# Altium schematic symbol library JFD_Res.SchLib: 28 symbols
Pins are listed as number, name and electrical type; pins without a type are passive.

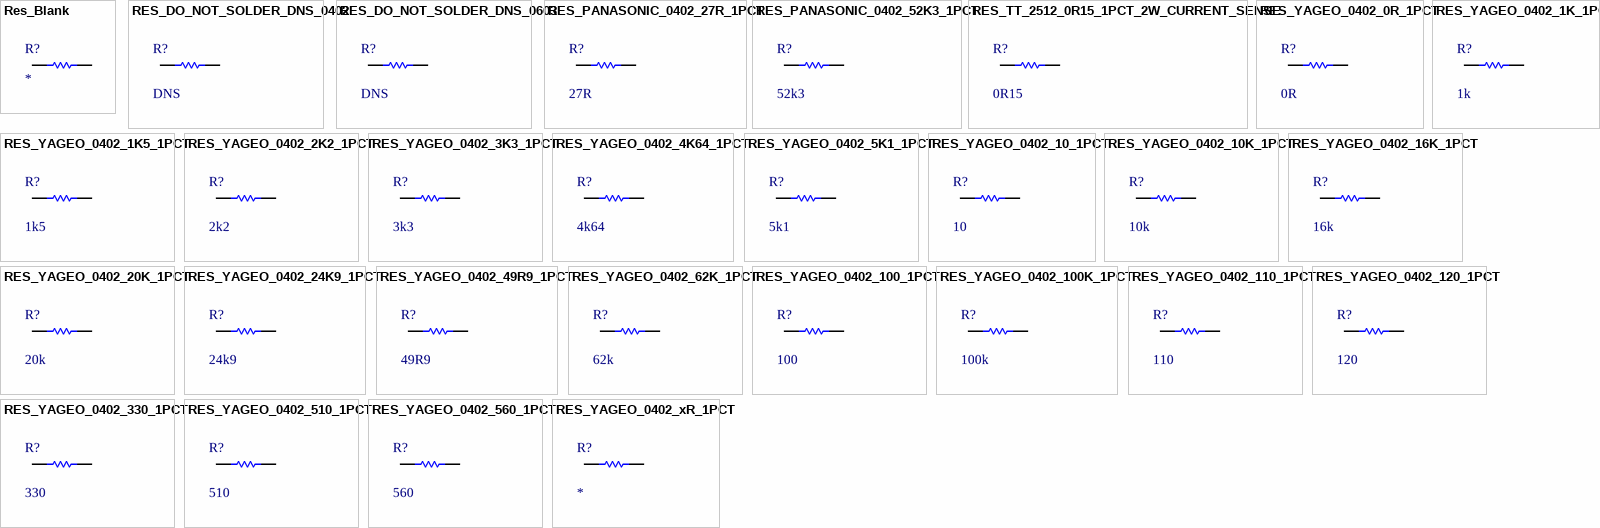
[diagram p0: symbols Res_Blank to RES_YAGEO_0402_xR_1PCT]

## Res_Blank
designator R?
Mfg: *; MfgPartNumber: *; Value: *; Digikey: *
pins: 1, 2

## RES_DO_NOT_SOLDER_DNS_0402
designator R?, comment DNS
Optional jumper - Do Not Solder; Mfg: NULL; MfgPartNumber: NULL; Digikey: NULL; Value: DNS
footprint 0402
pins: 1, 2

## RES_DO_NOT_SOLDER_DNS_0603
designator R?, comment DNS
Optional jumper - Do Not Solder; Mfg: NULL; MfgPartNumber: NULL; Digikey: NULL; Value: DNS
footprint 0603
pins: 1, 2

## RES_PANASONIC_0402_27R_1PCT
designator R?, comment 27R
RES 27.0 OHM 1/10W 1% 0402 SMD; MfgPartNumber: ERJ-2RKF27R0X; Mfg: Panasonic; Digikey: P27.0LCT-ND; Value: 27R
footprint 0402
pins: 1, 2

## RES_PANASONIC_0402_52K3_1PCT
designator R?, comment 52k3
RES 52.3K OHM 1/10W 1% 0402 SMD; MfgPartNumber: ERJ-2RKF5232X; Mfg: Panasonic - ECG; Digikey: P52.3KLCT-ND; Value: 52k3
footprint 0402
pins: 1, 2

## RES_TT_2512_0R15_1PCT_2W_CURRENT_SENSE
designator R?, comment 0R15
RES .150 OHM 2W 1% 2512 SMD; MfgPartNumber: LRC-LR2512LF-01-R150-F; Mfg: TT Electronics/IRC; Digikey: 989-1064-1-ND; Value: 0R15
footprint 2512
pins: 1, 2

## RES_YAGEO_0402_0R_1PCT
designator R?, comment 0R
RES 0.0 OHM 1/16W 0402 SMD; MfgPartNumber: RC0402JR-070RL; Mfg: Yageo; Digikey: 311-0.0JRCT-ND; Value: 0R
footprint 0402
pins: 1, 2

## RES_YAGEO_0402_1K5_1PCT
designator R?, comment 1k5
RES 1.50K OHM 1/16W 1% 0402 SMD; MfgPartNumber: RC0402FR-071K5L; Mfg: Yageo; Digikey: 311-1.50KLRCT-ND; Value: 1k5
footprint 0402
pins: 1, 2

## RES_YAGEO_0402_1K_1PCT
designator R?, comment 1k
RES 1.00K OHM 1/16W 1% 0402 SMD; MfgPartNumber: RC0402FR-071KL; Mfg: Yageo; Digikey: 311-1.00KLRCT-ND; Value: 1k
footprint 0402
pins: 1, 2

## RES_YAGEO_0402_2K2_1PCT
designator R?, comment 2k2
RES 2.20K OHM 1/16W 1% 0402 SMD; MfgPartNumber: RC0402FR-072K2L; Mfg: Yageo; Digikey: 311-2.20KLRCT-ND; Value: 2k2
footprint 0402
pins: 1, 2

## RES_YAGEO_0402_3K3_1PCT
designator R?, comment 3k3
RES 3.30K OHM 1/16W 1% 0402 SMD; MfgPartNumber: RC0402FR-073K3L; Mfg: Yageo; Digikey: 311-3.30KLRCT-ND; Value: 3k3
footprint 0402
pins: 1, 2

## RES_YAGEO_0402_4K64_1PCT
designator R?, comment 4k64
RES 4.64K OHM 1/16W 1% 0402 SMD; MfgPartNumber: RC0402FR-074K64L; Mfg: Yageo; Digikey: 311-4.64KLRCT-ND; Value: 4k64
footprint 0402
pins: 1, 2

## RES_YAGEO_0402_5K1_1PCT
designator R?, comment 5k1
RES 5.10K OHM 1/16W 1% 0402 SMD; MfgPartNumber: RC0402FR-075K1L; Mfg: Yageo; Digikey: 311-5.10KLRCT-ND; Value: 5k1
footprint 0402
pins: 1, 2

## RES_YAGEO_0402_10_1PCT
designator R?, comment 10
RES 10.0 OHM 1/16W 1% 0402 SMD; MfgPartNumber: RC0402FR-0710RL; Mfg: Yageo; Digikey: 311-10.0LRCT-ND; Value: 10
footprint 0402
pins: 1, 2

## RES_YAGEO_0402_10K_1PCT
designator R?, comment 10k
RES 10.0K OHM 1/16W 1% 0402 SMD; MfgPartNumber: RC0402FR-0710KL; Mfg: Yageo; Digikey: 311-10.0KLRCT-ND; Value: 10k
footprint 0402
pins: 1, 2

## RES_YAGEO_0402_16K_1PCT
designator R?, comment 16k
RES 16.0K OHM 1/16W 1% 0402 SMD; MfgPartNumber: RC0402FR-0716KL; Mfg: Yageo; Digikey: 311-16.0KLRCT-ND; Value: 16k
footprint 0402
pins: 1, 2

## RES_YAGEO_0402_20K_1PCT
designator R?, comment 20k
RES 20.0K OHM 1/16W 1% 0402 SMD; MfgPartNumber: RC0402FR-0720KL; Mfg: Yageo; Digikey: 311-20.0KLRCT-ND; Value: 20k
footprint 0402
pins: 1, 2

## RES_YAGEO_0402_24K9_1PCT
designator R?, comment 24k9
RES 24.9K OHM 1/16W 1% 0402 SMD; MfgPartNumber: RC0402FR-0724K9L; Mfg: Yageo; Digikey: 311-24.9KLRCT-ND; Value: 24k9
footprint 0402
pins: 1, 2

## RES_YAGEO_0402_49R9_1PCT
designator R?, comment 49R9
RES 49.9 OHM 1/16W 1% 0402 SMD; MfgPartNumber: RC0402FR-0749R9L; Mfg: Yageo; Digikey: 311-49.9LRCT-ND; Value: 49R9
footprint 0402
pins: 1, 2

## RES_YAGEO_0402_62K_1PCT
designator R?, comment 62k
RES 62.0K OHM 1/16W 1% 0402 SMD; MfgPartNumber: RC0402FR-0762KL; Mfg: Yageo; Digikey: 311-62.0KLRCT-ND; Value: 62k
footprint 0402
pins: 1, 2

## RES_YAGEO_0402_100_1PCT
designator R?, comment 100
RES 100 OHM 1/16W 1% 0402 SMD; MfgPartNumber: RC0402FR-07100RL; Mfg: Yageo; Digikey: 311-100LRCT-ND; Value: 100
footprint 0402
pins: 1, 2

## RES_YAGEO_0402_100K_1PCT
designator R?, comment 100k
RES 100K OHM 1/16W 1% 0402 SMD; MfgPartNumber: RC0402FR-07100KL; Mfg: Yageo; Digikey: 311-100KLRCT-ND; Value: 100k
footprint 0402
pins: 1, 2

## RES_YAGEO_0402_110_1PCT
designator R?, comment 110
RES 110 OHM 1/16W 1% 0402 SMD; MfgPartNumber: RC0402FR-07110RL; Mfg: Yageo; Digikey: 311-110LRCT-ND; Value: 110
footprint 0402
pins: 1, 2

## RES_YAGEO_0402_120_1PCT
designator R?, comment 120
RES 120 OHM 1/16W 1% 0402 SMD; MfgPartNumber: RC0402FR-07120RL; Mfg: Yageo; Digikey: 311-120LRCT-ND; Value: 120
footprint 0402
pins: 1, 2

## RES_YAGEO_0402_330_1PCT
designator R?, comment 330
RES 330 OHM 1/16W 1% 0402 SMD; MfgPartNumber: RC0402FR-07330RL; Mfg: Yageo; Digikey: 311-330LRCT-ND; Value: 330
footprint 0402
pins: 1, 2

## RES_YAGEO_0402_510_1PCT
designator R?, comment 510
RES 510 OHM 1/16W 1% 0402 SMD; MfgPartNumber: RC0402FR-07510RL; Mfg: Yageo; Digikey: 311-510LRCT-ND; Value: 510
footprint 0402
pins: 1, 2

## RES_YAGEO_0402_560_1PCT
designator R?, comment 560
RES 560 OHM 1/16W 1% 0402 SMD; MfgPartNumber: RC0402FR-07560RL; Mfg: Yageo; Digikey: 311-560LRCT-ND; Value: 560
footprint 0402
pins: 1, 2

## RES_YAGEO_0402_xR_1PCT
designator R?
Mfg: Yageo; MfgPartNumber: *; Digikey: *; Value: *
footprint 0402
pins: 1, 2